# Altium schematic symbol library TPS63020DSJT.SchLib: 1 symbol
Pins are listed as number, name and electrical type; pins without a type are passive.

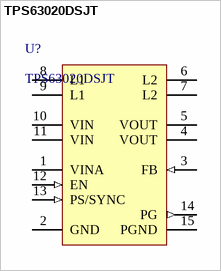
[diagram p0: symbol TPS63020DSJT]

## TPS63020DSJT
designator U?
pins: 1 VINA, 2 GND (power), 3 FB (in), 4 VOUT (power), 5 VOUT (power), 6 L2, 7 L2, 8 L1, 9 L1, 10 VIN (power), 11 VIN (power), 12 EN (in), 13 PS/SYNC (in), 14 PG (out), 15 PGND (power)